# Altium footprint library CHXXX.pcblib: 161 footprints (part 5 of 11)
Each footprint in its own frame and in the unit in brackets; x right, y up, seen from the top. Pads: shape width x height; smd on the part's side, far side on the other; paste and mask are expansions set on the pad; w line width, h text height; cw(c..) or ccw(c..) is an arc to the next point about the centre after c.
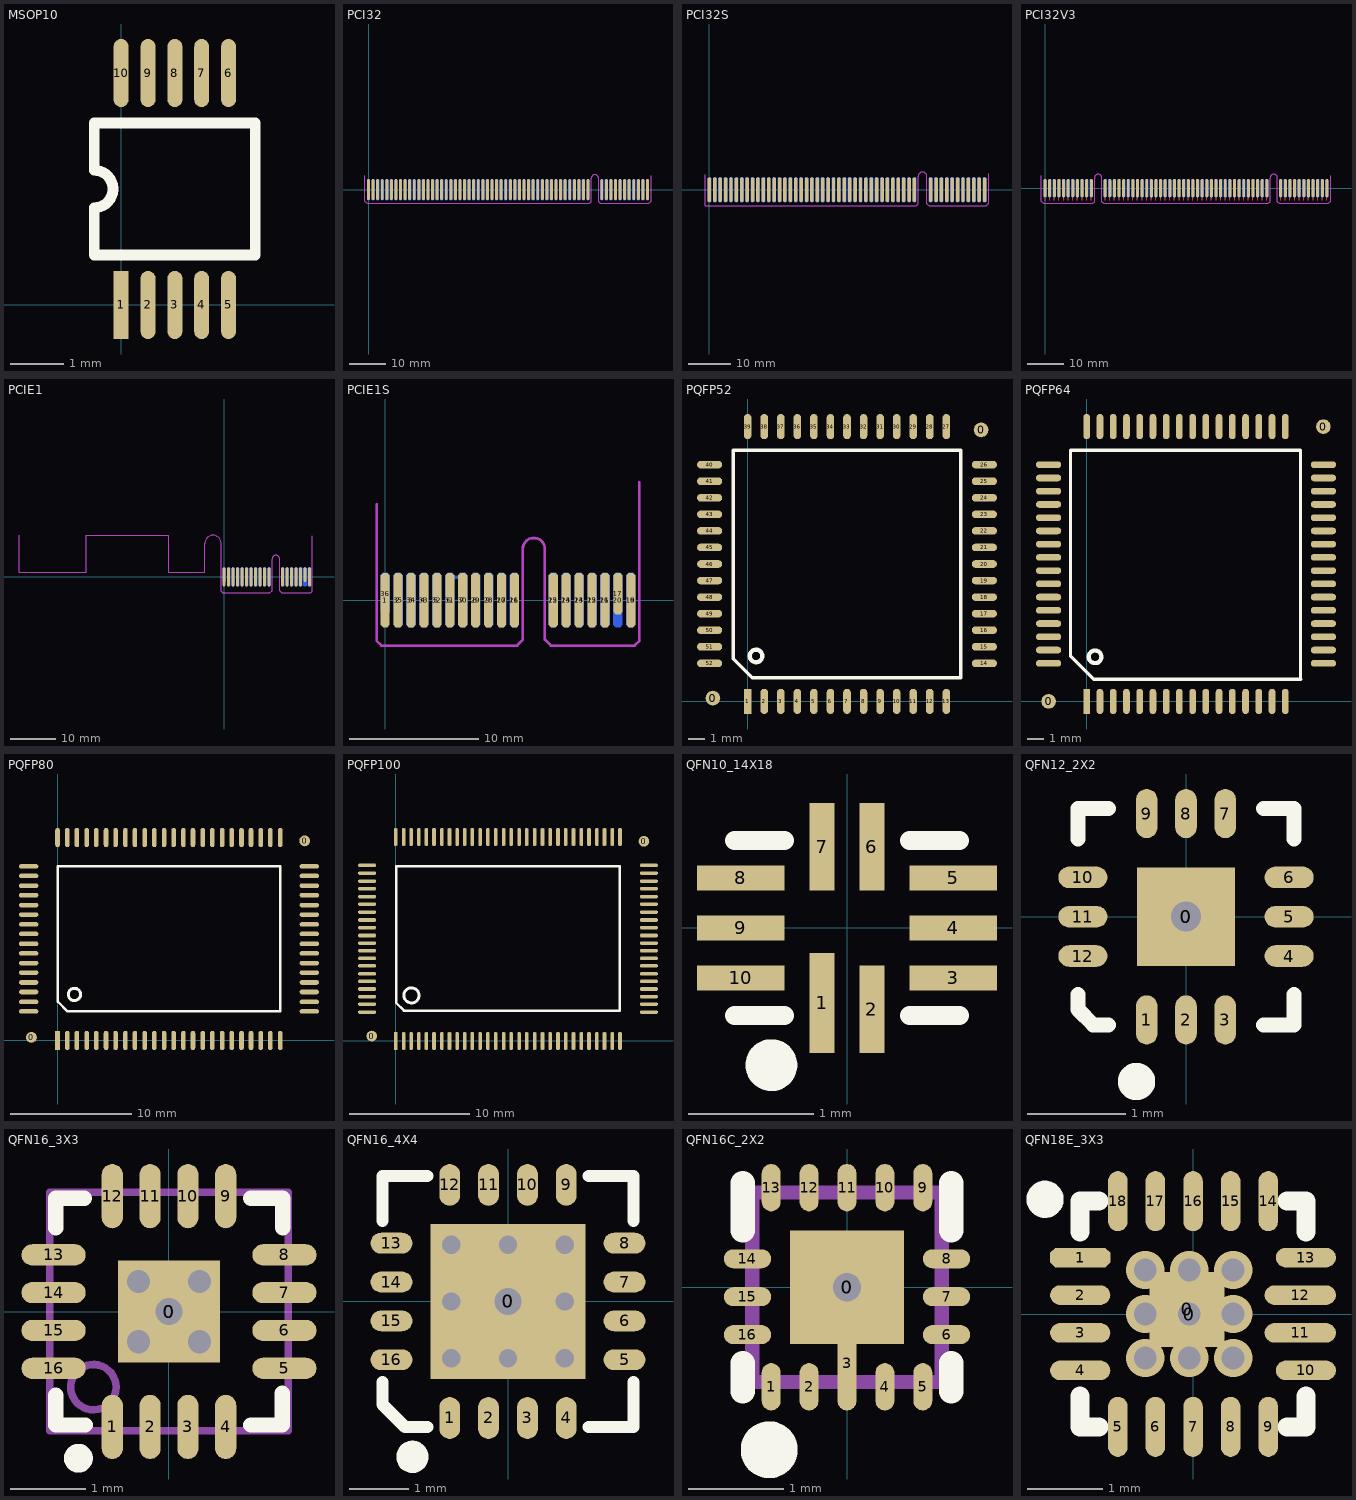
[diagram p4: the footprints below, top view; thin cyan lines are the x and y axes]

## MSOP10 [mil]
pads (10):
  rect 11x50 smd mask+2: 1(0,0)
  oval 11x50 smd mask+2: 2(19.68,0) 3(39.37,0) 4(59.06,0) 5(78.74,0) 6(78.74,170) 7(59.06,170) 8(39.37,170) 9(19.68,170) 10(0,170)
TopOverlay:
  lines w7.87: -19.8,36.65 98.32,36.65 98.32,133.35 -19.8,133.35 -19.8,98.78 cw(c-19.8,85) -19.8,71.22 -19.8,36.65

## PCI32 [mil]
pads (120):
  oct 32x230 smd: 1(0,0) 2(50,0) 3(100,0) 4(150,0) 5(200,0) 6(250,0) 7(300,0) 8(350,0) 9(400,0) 10(450,0) 11(500,0) 12(550,0) 13(600,0) 14(650,0) 15(700,0) 16(750,0) 17(800,0) 18(850,0) 19(900,0) 20(950,0) 21(1000,0) 22(1050,0) 23(1100,0) 24(1150,0) 25(1200,0) 26(1250,0) 27(1300,0) 28(1350,0) 29(1400,0) 30(1450,0) 31(1500,0) 32(1550,0) 33(1600,0) 34(1650,0) 35(1700,0) 36(1750,0) 37(1800,0) 38(1850,0) 39(1900,0) 40(1950,0) 41(2000,0) 42(2050,0) 43(2100,0) 44(2150,0) 45(2200,0) 46(2250,0) 47(2300,0) 48(2350,0) 49(2400,0) 52(2550,0) 53(2600,0) 54(2650,0) 55(2700,0) 56(2750,0) 57(2800,0) 58(2850,0) 59(2900,0) 60(2950,0) 61(3000,0) 62(3050,0)
  oct 32x230 smd far side: 63(3050,0) 64(3000,0) 65(2950,0) 66(2900,0) 67(2850,0) 68(2800,0) 69(2750,0) 70(2700,0) 71(2650,0) 72(2600,0) 73(2550,0) 76(2400,0) 77(2350,0) 78(2300,0) 79(2250,0) 80(2200,0) 81(2150,0) 82(2100,0) 83(2050,0) 84(2000,0) 85(1950,0) 86(1900,0) 87(1850,0) 88(1800,0) 89(1750,0) 90(1700,0) 91(1650,0) 92(1600,0) 93(1550,0) 94(1500,0) 95(1450,0) 96(1400,0) 97(1350,0) 98(1300,0) 99(1250,0) 100(1200,0) 101(1150,0) 102(1100,0) 103(1050,0) 104(1000,0) 105(950,0) 106(900,0) 107(850,0) 108(800,0) 109(750,0) 110(700,0) 111(650,0) 112(600,0) 113(550,0) 114(500,0) 115(450,0) 116(400,0) 117(350,0) 118(300,0) 119(250,0) 120(200,0) 121(150,0) 122(100,0) 123(50,0) 124(0,0)
TopSolder:
  rectangle: -40,-150 2435,120
  rectangle: 2515,-150 3090,120
BottomSolder:
  rectangle: 2515,-150 3090,120
  rectangle: -40,-150 2435,120
KeepOutLayer:
  lines w10: -40,150 -40,-125 -15,-150 2415,-150 2435,-130 2435,125 cw(c2475,125) 2515,125 2515,-130 2535,-150 3065,-150 3090,-125 3090,150
Mechanical1:
  lines w10: -40,150 -40,-125 -15,-150 2415,-150 2435,-130 2435,125 cw(c2475,125) 2515,125 2515,-130 2535,-150 3065,-150 3090,-125 3090,150

## PCI32S [mil]
pads (100):
  oct 32x230 smd: 11(0,0) 12(50,0) 13(100,0) 14(150,0) 15(200,0) 16(250,0) 17(300,0) 18(350,0) 19(400,0) 20(450,0) 21(500,0) 22(550,0) 23(600,0) 24(650,0) 25(700,0) 26(750,0) 27(800,0) 28(850,0) 29(900,0) 30(950,0) 31(1000,0) 32(1050,0) 33(1100,0) 34(1150,0) 35(1200,0) 36(1250,0) 37(1300,0) 38(1350,0) 39(1400,0) 40(1450,0) 41(1500,0) 42(1550,0) 43(1600,0) 44(1650,0) 45(1700,0) 46(1750,0) 47(1800,0) 48(1850,0) 49(1900,0) 52(2050,0) 53(2100,0) 54(2150,0) 55(2200,0) 56(2250,0) 57(2300,0) 58(2350,0) 59(2400,0) 60(2450,0) 61(2500,0) 62(2550,0)
  oct 32x230 smd far side: 63(2550,0) 64(2500,0) 65(2450,0) 66(2400,0) 67(2350,0) 68(2300,0) 69(2250,0) 70(2200,0) 71(2150,0) 72(2100,0) 73(2050,0) 76(1900,0) 77(1850,0) 78(1800,0) 79(1750,0) 80(1700,0) 81(1650,0) 82(1600,0) 83(1550,0) 84(1500,0) 85(1450,0) 86(1400,0) 87(1350,0) 88(1300,0) 89(1250,0) 90(1200,0) 91(1150,0) 92(1100,0) 93(1050,0) 94(1000,0) 95(950,0) 96(900,0) 97(850,0) 98(800,0) 99(750,0) 100(700,0) 101(650,0) 102(600,0) 103(550,0) 104(500,0) 105(450,0) 106(400,0) 107(350,0) 108(300,0) 109(250,0) 110(200,0) 111(150,0) 112(100,0) 113(50,0) 114(0,0)
TopSolder:
  rectangle: -40,-150 1935,120
  rectangle: 2015,-150 2590,120
BottomSolder:
  rectangle: 2015,-150 2590,120
  rectangle: -40,-150 1935,120
KeepOutLayer:
  lines w10: -40,140 -40,-150 1915,-150 1935,-130 1935,125 cw(c1975,125) 2015,125 2015,-130 2035,-150 2565,-150 2590,-125 2590,150
Mechanical1:
  lines w10: -40,140 -40,-150 1915,-150 1935,-130 1935,125 cw(c1975,125) 2015,125 2015,-130 2035,-150 2565,-150 2590,-125 2590,150

## PCI32V3 [mm]
pads (116):
  oval 0.813x5 smd: 1(0,0) 2(1.27,0) 3(2.54,0) 4(3.81,0) 5(5.08,0) 6(6.35,0) 7(7.62,0) 8(8.89,0) 9(10.16,0) 10(11.43,0) 11(12.7,0) 14(16.51,0) 15(17.78,0) 16(19.05,0) 17(20.32,0) 18(21.59,0) 19(22.86,0) 20(24.13,0) 21(25.4,0) 22(26.67,0) 23(27.94,0) 24(29.21,0) 25(30.48,0) 26(31.75,0) 27(33.02,0) 28(34.29,0) 29(35.56,0) 30(36.83,0) 31(38.1,0) 32(39.37,0) 33(40.64,0) 34(41.91,0) 35(43.18,0) 36(44.45,0) 37(45.72,0) 38(46.99,0) 39(48.26,0) 40(49.53,0) 41(50.8,0) 42(52.07,0) 43(53.34,0) 44(54.61,0) 45(55.88,0) 46(57.15,0) 47(58.42,0) 48(59.69,0) 49(60.96,0) 52(64.77,0) 53(66.04,0) 54(67.31,0) 55(68.58,0) 56(69.85,0) 57(71.12,0) 58(72.39,0) 59(73.66,0) 60(74.93,0) 61(76.2,0) 62(77.47,0)
  oval 0.813x5 smd far side: 63(77.47,0) 64(76.2,0) 65(74.93,0) 66(73.66,0) 67(72.39,0) 68(71.12,0) 69(69.85,0) 70(68.58,0) 71(67.31,0) 72(66.04,0) 73(64.77,0) 76(60.96,0) 77(59.69,0) 78(58.42,0) 79(57.15,0) 80(55.88,0) 81(54.61,0) 82(53.34,0) 83(52.07,0) 84(50.8,0) 85(49.53,0) 86(48.26,0) 87(46.99,0) 88(45.72,0) 89(44.45,0) 90(43.18,0) 91(41.91,0) 92(40.64,0) 93(39.37,0) 94(38.1,0) 95(36.83,0) 96(35.56,0) 97(34.29,0) 98(33.02,0) 99(31.75,0) 100(30.48,0) 101(29.21,0) 102(27.94,0) 103(26.67,0) 104(25.4,0) 105(24.13,0) 106(22.86,0) 107(21.59,0) 108(20.32,0) 109(19.05,0) 110(17.78,0) 111(16.51,0) 114(12.7,0) 115(11.43,0) 116(10.16,0) 117(8.89,0) 118(7.62,0) 119(6.35,0) 120(5.08,0) 121(3.81,0) 122(2.54,0) 123(1.27,0) 124(0,0)
TopLayer:
  lines w0.305: 0,-3.302 0,-2 ; 1.27,-3.302 1.27,-2 ; 2.54,-3.302 2.54,-2 ; 3.81,-3.302 3.81,-2 ; 5.08,-3.302 5.08,-2 ; 6.35,-3.302 6.35,-2 ; 7.62,-3.302 7.62,-2 ; 8.89,-3.302 8.89,-2 ; 10.16,-3.302 10.16,-2 ; 11.43,-3.302 11.43,-2 ; 12.7,-3.302 12.7,-2 ; 16.51,-3.302 16.51,-2 ; 17.78,-3.302 17.78,-2 ; 19.05,-3.302 19.05,-2 ; 20.32,-3.302 20.32,-2 ; 21.59,-3.302 21.59,-2 ; 22.86,-3.302 22.86,-2 ; 24.13,-3.302 24.13,-2 ; 25.4,-3.302 25.4,-2 ; 26.67,-3.302 26.67,-2 ; 27.94,-3.302 27.94,-2 ; 29.21,-3.302 29.21,-2 ; 30.48,-3.302 30.48,-2 ; 31.75,-3.302 31.75,-2 ; 33.02,-3.302 33.02,-2 ; 34.29,-3.302 34.29,-2 ; 35.56,-3.302 35.56,-2 ; 36.83,-3.302 36.83,-2 ; 38.1,-3.302 38.1,-2 ; 39.37,-3.302 39.37,-2 ; 40.64,-3.302 40.64,-2 ; 41.91,-3.302 41.91,-2 ; 43.18,-3.302 43.18,-2 ; 44.45,-3.302 44.45,-2 ; 45.72,-3.302 45.72,-2 ; 46.99,-3.302 46.99,-2 ; 48.26,-3.302 48.26,-2 ; 49.53,-3.302 49.53,-2 ; 50.8,-3.302 50.8,-2 ; 52.07,-3.302 52.07,-2 ; 53.34,-3.302 53.34,-2 ; 54.61,-3.302 54.61,-2 ; 55.88,-3.302 55.88,-2 ; 57.15,-3.302 57.15,-2 ; 58.42,-3.302 58.42,-2 ; 59.69,-3.302 59.69,-2 ; 60.96,-3.302 60.96,-2 ; 64.77,-3.302 64.77,-2 ; 66.04,-3.302 66.04,-2 ; 67.31,-3.302 67.31,-2 ; 68.58,-3.302 68.58,-2 ; 69.85,-3.302 69.85,-2 ; 71.12,-3.302 71.12,-2 ; 72.39,-3.302 72.39,-2 ; 73.66,-3.302 73.66,-2 ; 74.93,-3.302 74.93,-2 ; 76.2,-3.302 76.2,-2 ; 77.47,-3.302 77.47,-2
BottomLayer:
  lines w0.305: 0,-3.302 0,-2 ; 1.27,-3.302 1.27,-2 ; 2.54,-3.302 2.54,-2 ; 3.81,-3.302 3.81,-2 ; 5.08,-3.302 5.08,-2 ; 6.35,-3.302 6.35,-2 ; 7.62,-3.302 7.62,-2 ; 8.89,-3.302 8.89,-2 ; 10.16,-3.302 10.16,-2 ; 11.43,-3.302 11.43,-2 ; 12.7,-3.302 12.7,-2 ; 16.51,-3.302 16.51,-2 ; 17.78,-3.302 17.78,-2 ; 19.05,-3.302 19.05,-2 ; 20.32,-3.302 20.32,-2 ; 21.59,-3.302 21.59,-2 ; 22.86,-3.302 22.86,-2 ; 24.13,-3.302 24.13,-2 ; 25.4,-3.302 25.4,-2 ; 26.67,-3.302 26.67,-2 ; 27.94,-3.302 27.94,-2 ; 29.21,-3.302 29.21,-2 ; 30.48,-3.302 30.48,-2 ; 31.75,-3.302 31.75,-2 ; 33.02,-3.302 33.02,-2 ; 34.29,-3.302 34.29,-2 ; 35.56,-3.302 35.56,-2 ; 36.83,-3.302 36.83,-2 ; 38.1,-3.302 38.1,-2 ; 39.37,-3.302 39.37,-2 ; 40.64,-3.302 40.64,-2 ; 41.91,-3.302 41.91,-2 ; 43.18,-3.302 43.18,-2 ; 44.45,-3.302 44.45,-2 ; 45.72,-3.302 45.72,-2 ; 46.99,-3.302 46.99,-2 ; 48.26,-3.302 48.26,-2 ; 49.53,-3.302 49.53,-2 ; 50.8,-3.302 50.8,-2 ; 52.07,-3.302 52.07,-2 ; 53.34,-3.302 53.34,-2 ; 54.61,-3.302 54.61,-2 ; 55.88,-3.302 55.88,-2 ; 57.15,-3.302 57.15,-2 ; 58.42,-3.302 58.42,-2 ; 59.69,-3.302 59.69,-2 ; 60.96,-3.302 60.96,-2 ; 64.77,-3.302 64.77,-2 ; 66.04,-3.302 66.04,-2 ; 67.31,-3.302 67.31,-2 ; 68.58,-3.302 68.58,-2 ; 69.85,-3.302 69.85,-2 ; 71.12,-3.302 71.12,-2 ; 72.39,-3.302 72.39,-2 ; 73.66,-3.302 73.66,-2 ; 74.93,-3.302 74.93,-2 ; 76.2,-3.302 76.2,-2 ; 77.47,-3.302 77.47,-2
TopSolder:
  rectangle: 63.881,-4.039 78.283,2.794
  region: 61.849,2.794 15.621,2.794 15.621,-3.962 61.849,-3.962
  rectangle: -1.016,-4.064 13.386,2.769
BottomSolder:
  rectangle: 15.621,-4.267 61.849,2.794
  rectangle: 63.881,-4.115 78.257,2.692
  rectangle: -0.991,-4.089 13.386,2.718
KeepOutLayer:
  lines w0.254: -1.016,3.429 -1.016,-3.556 -0.381,-4.191 13.081,-4.191 13.589,-3.683 13.589,2.794 cw(c14.605,2.794) 15.621,2.794 15.621,-3.683 16.129,-4.191 61.341,-4.191 61.849,-3.683 61.849,2.794 cw(c62.865,2.794) 63.881,2.794 63.881,-3.683 64.389,-4.191 77.851,-4.191 78.486,-3.556 78.486,3.429
Mechanical1:
  lines w0.254: -1.016,3.429 -1.016,-3.556 -0.381,-4.191 13.081,-4.191 13.589,-3.683 13.589,2.794 cw(c14.605,2.794) 15.621,2.794 15.621,-3.683 16.129,-4.191 61.341,-4.191 61.849,-3.683 61.849,2.794 cw(c62.865,2.794) 63.881,2.794 63.881,-3.683 64.389,-4.191 77.851,-4.191 78.486,-3.556 78.486,3.429

## PCIE1 [mm]
pads (36):
  oct 0.7x4.2 smd: 1(0,0) 2(1,0) 3(2,0) 4(3,0) 5(4,0) 6(5,0) 7(6,0) 8(7,0) 9(8,0) 10(9,0) 11(10,0) 12(13,0) 13(14,0) 14(15,0) 15(16,0) 16(17,0) 18(19,0)
  oct 0.7x3.2 smd: 17(18,0.5)
  oct 0.7x4.2 smd far side: 19(19,0) 20(18,0) 21(17,0) 22(16,0) 23(15,0) 24(14,0) 25(13,0) 26(10,0) 27(9,0) 28(8,0) 29(7,0) 30(6,0) 31(5,0) 32(4,0) 33(3,0) 34(2,0) 35(1,0)
  oct 0.7x3.2 smd far side: 36(0,0.5)
KeepOutLayer:
  lines w0.2: -45.644,9.233 -45.644,0.983 -30.644,0.983 -30.644,9.233 -12.3,9.233 -12.3,0.983 -4.3,0.983 -4.3,7.414 cw(c-2.475,7.414) -0.65,7.414 -0.65,-3.149 -0.294,-3.504 ; -0.288,-3.517 10.194,-3.517 ; 10.194,-3.504 10.652,-3.047 10.652,3.988 ; 10.649,3.953 cw(c11.5,3.953) 12.351,3.953 ; 12.348,3.988 12.348,-3.045 12.806,-3.502 ; 12.808,-3.517 19.294,-3.517 ; 19.294,-3.504 19.65,-3.149 19.65,9.101
Mechanical1:
  lines w0.2: -45.644,9.233 -45.644,0.983 -30.644,0.983 -30.644,9.233 -12.3,9.233 -12.3,0.983 -4.3,0.983 -4.3,7.414 ; 10.649,3.953 10.649,-3.045 10.652,-3.047 10.188,-3.511 -0.288,-3.511 -0.65,-3.149 -0.65,7.414 ccw(c-2.475,7.414) -4.3,7.414 ; 10.652,3.988 cw(c11.5,3.953) 12.349,3.953 ; 12.351,3.953 12.351,-3.042 12.808,-3.499 19.277,-3.499 19.628,-3.149 19.628,9.079 ; -4.3,7.414 -4.3,7.414

## PCIE1S [mm]
pads (36):
  oct 0.7x4.2 smd: 1(0,0) 2(1,0) 3(2,0) 4(3,0) 5(4,0) 6(5,0) 7(6,0) 8(7,0) 9(8,0) 10(9,0) 11(10,0) 12(13,0) 13(14,0) 14(15,0) 15(16,0) 16(17,0) 18(19,0)
  oct 0.7x3.2 smd: 17(18,0.5)
  oct 0.7x4.2 smd far side: 19(19,0) 20(18,0) 21(17,0) 22(16,0) 23(15,0) 24(14,0) 25(13,0) 26(10,0) 27(9,0) 28(8,0) 29(7,0) 30(6,0) 31(5,0) 32(4,0) 33(3,0) 34(2,0) 35(1,0)
  oct 0.7x3.2 smd far side: 36(0,0.5)
BottomLayer:
  lines w0.254: 5.08,1.778 5.842,1.778
KeepOutLayer:
  lines w0.2: -0.65,7.414 -0.65,-3.149 -0.294,-3.504 ; -0.288,-3.517 10.194,-3.517 ; 10.194,-3.504 10.652,-3.047 10.652,3.988 ; 10.649,3.953 cw(c11.5,3.953) 12.351,3.953 ; 12.348,3.988 12.348,-3.045 12.821,-3.517 19.294,-3.517 ; 19.294,-3.504 19.65,-3.149 19.65,9.101
Mechanical1:
  lines w0.2: -0.65,7.414 -0.65,-3.149 -0.65,-3.155 -0.288,-3.517 10.194,-3.517 10.652,-3.06 10.652,3.953 cw(c11.5,3.953) 12.349,3.953 ; 12.348,-3.045 12.353,-3.045 12.826,-3.517 19.294,-3.517 19.65,-3.161 19.65,-3.149 19.65,9.101 ; 12.351,-3.042 12.351,3.953

## PQFP52 [mil]
pads (54):
  round 35 smd: 0(-82.68,7.87) 0(555.12,645.67)
  rect 18x60 smd: 1(0,0)
  oval 18x60 smd: 2(39.37,0) 3(78.74,0) 4(118.11,0) 5(157.48,0) 6(196.85,0) 7(236.22,0) 8(275.59,0) 9(314.96,0) 10(354.33,0) 11(393.7,0) 12(433.07,0) 13(472.44,0) 27(472.44,653.54) 28(433.07,653.54) 29(393.7,653.54) 30(354.33,653.54) 31(314.96,653.54) 32(275.59,653.54) 33(236.22,653.54) 34(196.85,653.54) 35(157.48,653.54) 36(118.11,653.54) 37(78.74,653.54) 38(39.37,653.54) 39(0,653.54)
  oval 60x18 smd: 14(562.99,90.55) 15(562.99,129.92) 16(562.99,169.29) 17(562.99,208.66) 18(562.99,248.03) 19(562.99,287.4) 20(562.99,326.77) 21(562.99,366.14) 22(562.99,405.51) 23(562.99,444.88) 24(562.99,484.25) 25(562.99,523.62) 26(562.99,562.99) 40(-90.55,562.99) 41(-90.55,523.62) 42(-90.55,484.25) 43(-90.55,444.88) 44(-90.55,405.51) 45(-90.55,366.14) 46(-90.55,326.77) 47(-90.55,287.4) 48(-90.55,248.03) 49(-90.55,208.66) 50(-90.55,169.29) 51(-90.55,129.92) 52(-90.55,90.55)
TopOverlay:
  circle w10: c20,108 r15
  lines w7.87: -34.06,101.18 -34.06,597.05 506.5,597.05 506.5,56.5 10.63,56.5 -34.06,101.18

## PQFP64 [mil]
pads (66):
  round 35 smd: 0(-90.55,0) 0(562.99,653.54)
  rect 16x60 smd: 1(0,0)
  oval 16x60 smd: 2(31.5,0) 3(62.99,0) 4(94.49,0) 5(125.98,0) 6(157.48,0) 7(188.98,0) 8(220.47,0) 9(251.97,0) 10(283.46,0) 11(314.96,0) 12(346.46,0) 13(377.95,0) 14(409.45,0) 15(440.94,0) 16(472.44,0) 33(472.44,653.54) 34(440.94,653.54) 35(409.45,653.54) 36(377.95,653.54) 37(346.46,653.54) 38(314.96,653.54) 39(283.46,653.54) 40(251.97,653.54) 41(220.47,653.54) 42(188.98,653.54) 43(157.48,653.54) 44(125.98,653.54) 45(94.49,653.54) 46(62.99,653.54) 47(31.5,653.54) 48(0,653.54)
  oval 60x16 smd: 17(562.99,90.55) 18(562.99,122.05) 19(562.99,153.54) 20(562.99,185.04) 21(562.99,216.54) 22(562.99,248.03) 23(562.99,279.53) 24(562.99,311.02) 25(562.99,342.52) 26(562.99,374.02) 27(562.99,405.51) 28(562.99,437.01) 29(562.99,468.5) 30(562.99,500) 31(562.99,531.5) 32(562.99,562.99) 49(-90.55,562.99) 50(-90.55,531.5) 51(-90.55,500) 52(-90.55,468.5) 53(-90.55,437.01) 54(-90.55,405.51) 55(-90.55,374.02) 56(-90.55,342.52) 57(-90.55,311.02) 58(-90.55,279.53) 59(-90.55,248.03) 60(-90.55,216.54) 61(-90.55,185.04) 62(-90.55,153.54) 63(-90.55,122.05) 64(-90.55,90.55)
TopOverlay:
  circle w10: c20,106 r15
  lines w7.87: -38.34,107.06 -38.34,597.65 508.78,597.65 508.78,52.53
  lines w8: -38.34,107.06 -38.05,107.06 16.47,52.53 508.78,52.53

## PQFP80 [mil]
pads (82):
  round 35 smd: 0(-85,10) 0(805,650)
  rect 15x63 smd: 1(0,0)
  oval 15x63 smd: 2(32,0) 3(63,0) 4(95,0) 5(126,0) 6(158,0) 7(189,0) 8(221,0) 9(252,0) 10(284,0) 11(315,0) 12(347,0) 13(378,0) 14(410,0) 15(441,0) 16(473,0) 17(504,0) 18(536,0) 19(567,0) 20(599,0) 21(630,0) 22(662,0) 23(693,0) 24(725,0) 41(725,661) 42(693,661) 43(662,661) 44(630,661) 45(599,661) 46(567,661) 47(536,661) 48(504,661) 49(473,661) 50(441,661) 51(410,661) 52(378,661) 53(347,661) 54(315,661) 55(284,661) 56(252,661) 57(221,661) 58(189,661) 59(158,661) 60(126,661) 61(95,661) 62(63,661) 63(32,661) 64(0,661)
  oval 63x15 smd: 25(820,95) 26(820,126) 27(820,158) 28(820,189) 29(820,221) 30(820,252) 31(820,284) 32(820,315) 33(820,347) 34(820,378) 35(820,410) 36(820,441) 37(820,473) 38(820,504) 39(820,536) 40(820,567) 65(-94,567) 66(-94,536) 67(-94,504) 68(-94,473) 69(-94,441) 70(-94,410) 71(-94,378) 72(-94,347) 73(-94,315) 74(-94,284) 75(-94,252) 76(-94,221) 77(-94,189) 78(-94,158) 79(-94,126) 80(-94,95)
TopOverlay:
  circle w10: c55,150 r20
  lines w8: 0,126 0,567 725,567 725,95 32,95 1,126

## PQFP100 [mil]
pads (102):
  round 35 smd: 0(-78.74,16.26) 0(816.74,656.74)
  rect 12x60 smd: 1(0,0)
  oct 12x60 smd: 2(26,0) 3(51,0) 4(76,0) 5(101,0) 6(126,0) 7(152,0) 8(177,0) 9(202,0) 10(227,0) 11(252,0) 12(278,0) 13(303,0) 14(329,0) 15(355,0) 16(380,0) 17(406,0) 18(431,0) 19(457,0) 20(483,0) 21(508,0) 22(534,0) 23(559,0) 24(585,0) 25(611,0) 26(636,0) 27(662,0) 28(687,0) 29(713,0) 30(738,0) 51(738,671) 52(713,671) 53(687,671) 54(662,671) 55(636,671) 56(611,671) 57(585,671) 58(559,671) 59(534,671) 60(508,671) 61(483,671) 62(457,671) 63(431,671) 64(406,671) 65(380,671) 66(355,671) 67(329,671) 68(303,671) 69(278,671) 70(252,671) 71(227,671) 72(202,671) 73(177,671) 74(152,671) 75(126,671) 76(101,671) 77(76,671) 78(51,671) 79(26,671) 80(0,671)
  oct 60x12 smd: 31(833,95) 32(833,121) 33(833,146) 34(833,171) 35(833,196) 36(833,221) 37(833,247) 38(833,272) 39(833,297) 40(833,322) 41(833,347) 42(833,373) 43(833,398) 44(833,424) 45(833,450) 46(833,475) 47(833,501) 48(833,526) 49(833,552) 50(833,578) 81(-94,578) 82(-94,552) 83(-94,526) 84(-94,501) 85(-94,475) 86(-94,450) 87(-94,424) 88(-94,398) 89(-94,373) 90(-94,347) 91(-94,322) 92(-94,297) 93(-94,272) 94(-94,247) 95(-94,221) 96(-94,196) 97(-94,171) 98(-94,146) 99(-94,121) 100(-94,95)
TopOverlay:
  circle w10: c52,150 r25
  lines w8: 2,125 27,100 737,100 737,575 2,575 2,125

## QFN10_14X18 [mm]
pads (10):
  rect 0.2x0.8 smd mask+0.051: 1(-0.2,-0.6)
  rect 0.2x0.7 smd mask+0.051: 2(0.2,-0.65) 6(0.2,0.65) 7(-0.2,0.65)
  rect 0.7x0.2 smd mask+0.051: 3(0.85,-0.4) 4(0.85,0) 5(0.85,0.4) 8(-0.85,0.4) 9(-0.85,0) 10(-0.85,-0.4)
TopOverlay:
  circle w0.254: c-0.605,-1.098 r0.08
  lines w0.152: -0.9,-0.7 -0.5,-0.7 ; -0.9,0.7 -0.5,0.7 ; 0.5,-0.7 0.9,-0.7 ; 0.5,0.7 0.9,0.7

## QFN12_2X2 [mm]
pads (14):
  rect 1x1 smd paste+0 mask+0.051: 0(0,0)
  round 0.508 hole 0.305 mask+0.102: 0(0,0)
  oval 0.22x0.5 smd mask+0.051: 1(-0.4,-1.05) 2(0,-1.05) 3(0.4,-1.05) 7(0.4,1.05) 8(0,1.05) 9(-0.4,1.05)
  oval 0.5x0.22 smd mask+0.051: 4(1.05,-0.4) 5(1.05,0) 6(1.05,0.4) 10(-1.05,0.4) 11(-1.05,0) 12(-1.05,-0.4)
TopOverlay:
  circle w0.229: c-0.504,-1.677 r0.076
  lines w0.152: -1.1,-0.789 -1.1,-0.945 -0.945,-1.1 -0.789,-1.1 ; -1.1,0.789 -1.1,1.1 -0.789,1.1 ; 0.789,-1.1 1.1,-1.1 1.1,-0.789 ; 0.789,1.1 1.1,1.1 1.1,0.789

## QFN16_3X3 [mm]
pads (18):
  rect 1.35x1.35 smd mask+0.051: 0(0,0)
  round 0.508 hole 0.356: 0(0,0)
  oval 0.28x0.85 smd mask+0.051: 1(-0.75,-1.526) 2(-0.25,-1.526) 3(0.25,-1.526) 4(0.75,-1.526) 9(0.75,1.526) 10(0.25,1.526) 11(-0.25,1.526) 12(-0.75,1.526)
  oval 0.85x0.28 smd mask+0.051: 5(1.526,-0.75) 6(1.526,-0.25) 7(1.526,0.25) 8(1.526,0.75) 13(-1.526,0.75) 14(-1.526,0.25) 15(-1.526,-0.25) 16(-1.526,-0.75)
via -0.405,-0.399 diameter 0.508 hole 0.305
via 0.405,-0.399 diameter 0.508 hole 0.305
via 0.405,0.399 diameter 0.508 hole 0.305
via -0.405,0.399 diameter 0.508 hole 0.305
TopOverlay:
  circle w0.229: c-1.198,-1.94 r0.076
  lines w0.203: -1.497,-1.108 -1.497,-1.5 -1.105,-1.5 ; -1.497,1.105 -1.497,1.5 -1.118,1.5 ; 1.079,-1.5 1.5,-1.5 1.5,-1.08 ; 1.082,1.5 1.503,1.5 1.503,1.108
Mechanical13:
  circle w0.1: c-1,-1 r0.3
  lines w0.1: -1.575,-1.575 -1.575,1.575 1.575,1.575 1.575,-1.575 -1.575,-1.575
3D body: height 0.25, standoff 0, extent -1.521,-1.519 1.521,1.523

## QFN16_4X4 [mm]
pads (18):
  rect 2.6x2.6 smd mask+0.051: 0(0,0)
  round 0.762 hole 0.457: 0(0,0)
  oval 0.35x0.7 smd mask+0.051: 1(-0.975,-1.95) 2(-0.325,-1.95) 3(0.325,-1.95) 4(0.975,-1.95) 9(0.975,1.95) 10(0.325,1.95) 11(-0.325,1.95) 12(-0.975,1.95)
  oval 0.7x0.35 smd mask+0.051: 5(1.95,-0.975) 6(1.95,-0.325) 7(1.95,0.325) 8(1.95,0.975) 13(-1.95,0.975) 14(-1.95,0.325) 15(-1.95,-0.325) 16(-1.95,-0.975)
via -0.95,-0.95 diameter 0.61 hole 0.305
via 0.95,-0.95 diameter 0.61 hole 0.305
via 0.95,0.95 diameter 0.61 hole 0.305
via -0.95,0.95 diameter 0.61 hole 0.305
via 0,0.95 diameter 0.61 hole 0.305
via -0.95,0 diameter 0.61 hole 0.305
via 0,-0.95 diameter 0.61 hole 0.305
via 0.95,0 diameter 0.61 hole 0.305
TopOverlay:
  circle w0.3: c-1.6,-2.6 r0.12
  lines w0.203: -2.1,-1.35 -2.1,-1.725 -1.725,-2.1 -1.35,-2.1 ; -2.1,1.35 -2.1,2.1 -1.35,2.1 ; 1.35,-2.1 2.1,-2.1 2.1,-1.35 ; 1.35,2.1 2.1,2.1 2.1,1.35

## QFN16C_2X2 [mm]
pads (18):
  rect 1.2x1.2 smd mask+0.051: 0(0,0)
  round 0.5 hole 0.3 mask+0.051: 0(0,0)
  oval 0.2x0.5 smd mask+0.051: 1(-0.8,-1.05) 2(-0.4,-1.05) 4(0.4,-1.05) 5(0.8,-1.05) 9(0.8,1.05) 10(0.4,1.05) 11(0,1.05) 12(-0.4,1.05) 13(-0.8,1.05)
  oval 0.2x1 smd mask+0.051: 3(0,-0.8)
  oval 0.5x0.2 smd mask+0.051: 6(1.05,-0.5) 7(1.05,-0.1) 8(1.05,0.3) 14(-1.05,0.3) 15(-1.05,-0.1) 16(-1.05,-0.5)
TopOverlay:
  circle w0.3: c-0.821,-1.715 r0.15
  lines w0.254: -1.1,-1.1 -1.1,-0.8 ; -1.1,0.6 -1.1,1.1 ; 1.1,-1.1 1.1,-0.8 ; 1.1,0.6 1.1,1.1
Mechanical15:
  lines w0.15: -1,-1 1,-1 1,1 -1,1 -1,-1

## QFN18E_3X3 [mm]
height 1.3
pads (20):
  rect 1x1 smd mask+0.051: 0(-0.08,0.06)
  round 0.508 hole 0.305 mask+0.051: 0(-0.051,0)
  oct 0.8x0.26 smd mask+0.051: 1(-1.5,0.75)
  oval 0.8x0.26 smd mask+0.051: 2(-1.5,0.25) 3(-1.5,-0.25) 4(-1.5,-0.75) 10(1.5,-0.75) 13(1.5,0.75)
  oval 0.26x0.8 smd mask+0.051: 5(-1,-1.5) 6(-0.5,-1.5) 7(0,-1.5) 8(0.5,-1.5) 9(1,-1.5) 14(1,1.5) 15(0.5,1.5) 16(0,1.5) 17(-0.5,1.5) 18(-1,1.5)
  oval 0.95x0.26 smd mask+0.051: 11(1.425,-0.25) 12(1.425,0.25)
via -0.051,0.584 diameter 0.508 hole 0.305
via -0.635,0 diameter 0.508 hole 0.305
via -0.635,0.584 diameter 0.508 hole 0.305
via 0.533,0.584 diameter 0.508 hole 0.305
via 0.533,0 diameter 0.508 hole 0.305
via 0.533,-0.584 diameter 0.508 hole 0.305
via -0.051,-0.584 diameter 0.508 hole 0.305
via -0.635,-0.584 diameter 0.508 hole 0.305
TopOverlay:
  circle w0.254: c-1.966,1.525 r0.121
  lines w0.254: -1.5,-1.092 -1.5,-1.5 -1.251,-1.5 ; -1.5,1.092 -1.5,1.5 -1.251,1.5 ; 1.251,-1.5 1.5,-1.5 1.5,-1.092 ; 1.251,1.5 1.5,1.5 1.5,1.092